# Altium footprint library Logic_Gates.PcbLib: 2 footprints
Each footprint in its own frame and in the unit in brackets; x right, y up, seen from the top. Pads: shape width x height; smd on the part's side, far side on the other; paste and mask are expansions set on the pad; w line width, h text height; cw(c..) or ccw(c..) is an arc to the next point about the centre after c.
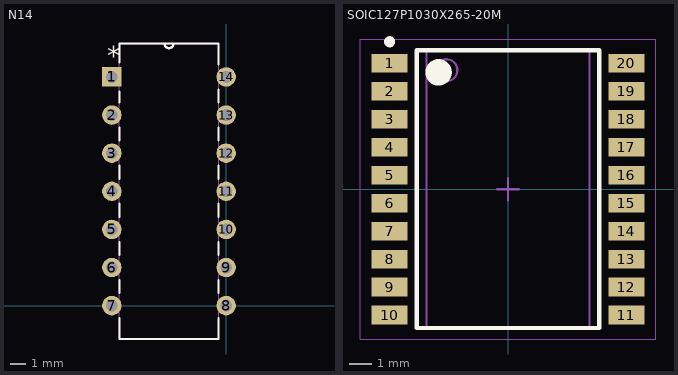
[diagram p0: the footprints below, top view; thin cyan lines are the x and y axes]

## N14 [mil]
pads (14):
  rect 51x51 hole 31: 1(-300,600)
  round 51 hole 31: 2(-300,500) 3(-300,400) 4(-300,300) 5(-300,200) 6(-300,100) 7(-300,0) 8(0,0) 9(0,100) 10(0,200) 11(0,300) 12(0,400) 13(0,500) 14(0,600)
Top Overlay:
  lines w6: -280,-33.01 -280,-87.5 -20,-87.5 -20,-33.01 ; -280,33.01 -280,66.99 ; -280,133.01 -280,166.99 ; -280,233.01 -280,266.99 ; -280,333.01 -280,366.99 ; -280,433.01 -280,466.99 ; -280,533.01 -280,561.4 ; -280,638.6 -280,687.5 -20,687.5 -20,633.01 ; -162,687.5 ccw(c-150,687.5) -138,687.5 ; -20,33.01 -20,66.99 ; -20,133.01 -20,166.99 ; -20,233.01 -20,266.99 ; -20,333.01 -20,366.99 ; -20,433.01 -20,466.99 ; -20,533.01 -20,566.99
  text "*" at -312.5,630.5 h50
Mechanical 13:
  lines w0: -162,687.5 ccw(c-150,687.5) -138,687.5
  lines w1: -315.5,-15.5 -280,-15.5 -280,15.5 -315.5,15.5 -315.5,-15.5 ; -315.5,84.5 -280,84.5 -280,115.5 -315.5,115.5 -315.5,84.5 ; -315.5,184.5 -280,184.5 -280,215.5 -315.5,215.5 -315.5,184.5 ; -315.5,284.5 -280,284.5 -280,315.5 -315.5,315.5 -315.5,284.5 ; -315.5,384.5 -280,384.5 -280,415.5 -315.5,415.5 -315.5,384.5 ; -315.5,484.5 -280,484.5 -280,515.5 -315.5,515.5 -315.5,484.5 ; -315.5,584.5 -280,584.5 -280,615.5 -315.5,615.5 -315.5,584.5 ; -280,-87.5 -280,687.5 -20,687.5 -20,-87.5 -280,-87.5 ; -20,-15.5 15.5,-15.5 15.5,15.5 -20,15.5 -20,-15.5 ; -20,84.5 15.5,84.5 15.5,115.5 -20,115.5 -20,84.5 ; -20,184.5 15.5,184.5 15.5,215.5 -20,215.5 -20,184.5 ; -20,284.5 15.5,284.5 15.5,315.5 -20,315.5 -20,284.5 ; -20,384.5 15.5,384.5 15.5,415.5 -20,415.5 -20,384.5 ; -20,484.5 15.5,484.5 15.5,515.5 -20,515.5 -20,484.5 ; -20,584.5 15.5,584.5 15.5,615.5 -20,615.5 -20,584.5
  text "*" at -312.5,630.5 h50
3D body: height 10, standoff 0, extent 0,0 10,10
3D body "DIP14.stp": height 199.55, standoff -129.95, extent -310,-80 0,695

## SOIC127P1030X265-20M [mm] "SOIC, 20-Leads, Body 12,80x7,50mm, Pitch 1,27mm, IPC Low Density"
height 2.65
pads (20):
  rect 1.65x0.85 smd: 1(-5.375,5.715) 2(-5.375,4.445) 3(-5.375,3.175) 4(-5.375,1.905) 5(-5.375,0.635) 6(-5.375,-0.635) 7(-5.375,-1.905) 8(-5.375,-3.175) 9(-5.375,-4.445) 10(-5.375,-5.715) 11(5.375,-5.715) 12(5.375,-4.445) 13(5.375,-3.175) 14(5.375,-1.905) 15(5.375,-0.635) 16(5.375,0.635) 17(5.375,1.905) 18(5.375,3.175) 19(5.375,4.445) 20(5.375,5.715)
Top Overlay:
  circle w0.6: c-3.15,5.3 r0.3
  circle w0.25: c-5.375,6.69 r0.125
  lines w0.2: -4.15,-6.3 4.15,-6.3 4.15,6.3 -4.15,6.3 -4.15,-6.3
Mechanical 13:
  circle w0.1: c-2.8,5.4 r0.5
  lines w0.1: -3.7,-6.3 3.7,-6.3 3.7,6.3 -3.7,6.3 -3.7,-6.3
Mechanical 15:
  lines w0.05: -6.7,-6.8 6.7,-6.8 6.7,6.8 -6.7,6.8 -6.7,-6.8
  lines w0.1: -0.5,0 0.5,0 ; 0,-0.5 0,0.5
3D body "SOIC20.STEP": height 2.3, standoff 0.06, extent -5.067,-6.3 5.067,6.3